# EAGLE library part CY7C68013*-56 (library hs-ul)
Zuordnungstabelle Vorn SSOP56 LF56 Pb Pb-frei Pb Pb-frei FX2 CY7C68013 -56PVC -56PVXC -56LFC -56LFXC FX2LP CY7C68013 A-56PVC A-56PVXC A-56LFC A-56LFXC
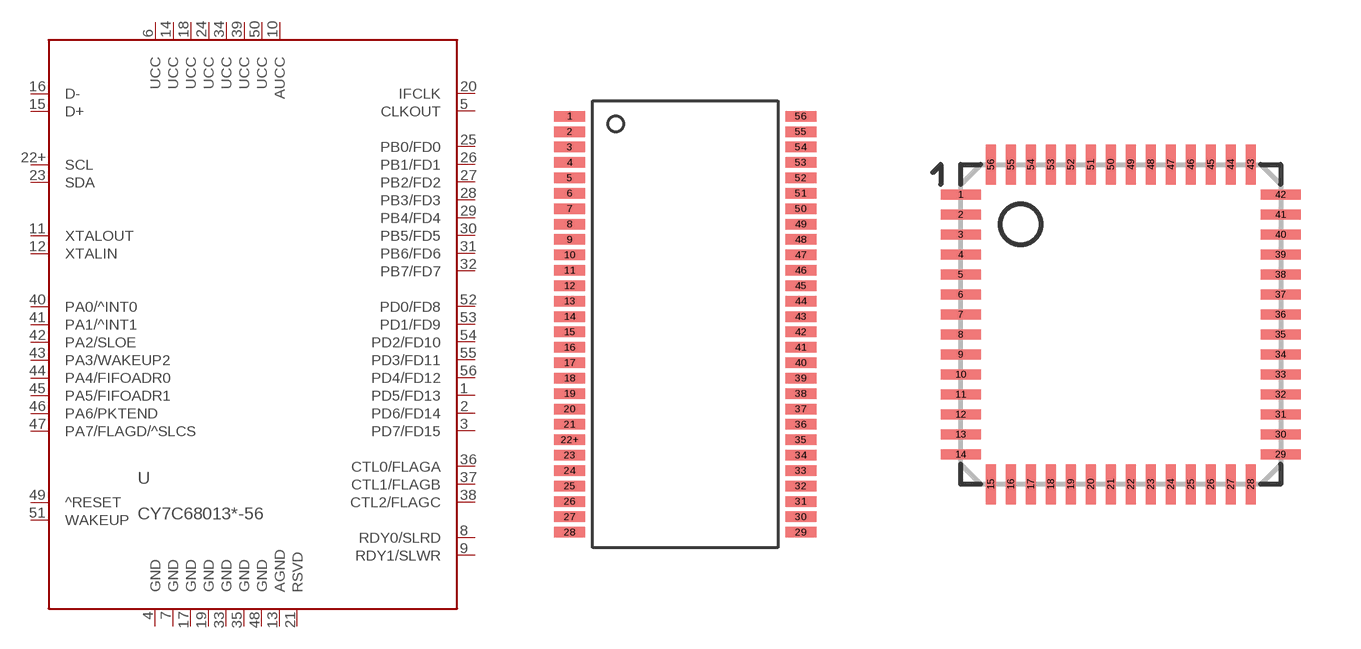
[diagram p5: symbol with the pads of SSOP56; footprints SSOP56, MLF56]

Designator prefix U

## CY7C68013-56PVC, CY7C68013A-56PVC  [SSOP56]
1  PD5/FD13
2  PD6/FD14
3  PD7/FD15
4  GND  pwr
5  CLKOUT  hiz
6  UCC  pwr
7  GND  pwr
8  RDY0/SLRD  in
9  RDY1/SLWR  in
10  AUCC  pwr
11  XTALOUT  out
12  XTALIN  in
13  AGND  pwr
14  UCC  pwr
15  D+
16  D-
17  GND  pwr
18  UCC  pwr
19  GND  pwr
20  IFCLK
21  RSVD  in
22+  SCL  oc
23  SDA  oc
24  UCC  pwr
25  PB0/FD0
26  PB1/FD1
27  PB2/FD2
28  PB3/FD3
29  PB4/FD4
30  PB5/FD5
31  PB6/FD6
32  PB7/FD7
33  GND  pwr
34  UCC  pwr
35  GND  pwr
36  CTL0/FLAGA  hiz
37  CTL1/FLAGB  hiz
38  CTL2/FLAGC  hiz
39  UCC  pwr
40  PA0/^INT0
41  PA1/^INT1
42  PA2/SLOE
43  PA3/WAKEUP2
44  PA4/FIFOADR0
45  PA5/FIFOADR1
46  PA6/PKTEND
47  PA7/FLAGD/^SLCS
48  GND  pwr
49  ^RESET  in
50  UCC  pwr
51  WAKEUP  in
52  PD0/FD8
53  PD1/FD9
54  PD2/FD10
55  PD3/FD11
56  PD4/FD12

## CY7C68013-56LFC, CY7C68013A-56LFC  [MLF56]
1  RDY0/SLRD  in
2  RDY1/SLWR  in
3  AUCC  pwr
4  XTALOUT  out
5  XTALIN  in
6  AGND  pwr
7  UCC  pwr
8  D+
9  D-
10  GND  pwr
11  UCC  pwr
12  GND  pwr
13  IFCLK
14  RSVD  in
15  SCL  oc
16  SDA  oc
17  UCC  pwr
18  PB0/FD0
19  PB1/FD1
20  PB2/FD2
21  PB3/FD3
22  PB4/FD4
23  PB5/FD5
24  PB6/FD6
25  PB7/FD7
26  GND  pwr
27  UCC  pwr
28  GND  pwr
29  CTL0/FLAGA  hiz
30  CTL1/FLAGB  hiz
31  CTL2/FLAGC  hiz
32  UCC  pwr
33  PA0/^INT0
34  PA1/^INT1
35  PA2/SLOE
36  PA3/WAKEUP2
37  PA4/FIFOADR0
38  PA5/FIFOADR1
39  PA6/PKTEND
40  PA7/FLAGD/^SLCS
41  GND  pwr
42  ^RESET  in
43  UCC  pwr
44  WAKEUP  in
45  PD0/FD8
46  PD1/FD9
47  PD2/FD10
48  PD3/FD11
49  PD4/FD12
50  PD5/FD13
51  PD6/FD14
52  PD7/FD15
53  GND  pwr
54  CLKOUT  hiz
55  UCC  pwr
56  GND  pwr

## CY7C68013-56LFXC, CY7C68013A-56LFXC  [MLF56]
Pads as for MLF56

## CY7C68013-56PVXC, CY7C68013A-56PVXC  [SSOP56]
Pads as for SSOP56

## Footprint SSOP56 (pad centres in mm)
56-lead Shrunk Small Outline Package O56 Raster: 25 mil (0,65 mm)
smd 1.27 x 0.432: 1 -4.763,8.572; 2 -4.763,7.938; 3 -4.763,7.303; 4 -4.763,6.668; 5 -4.763,6.032; 6 -4.763,5.397; 7 -4.763,4.763; 8 -4.763,4.128; 9 -4.763,3.493; 10 -4.763,2.857; 11 -4.763,2.223; 12 -4.763,1.587; 13 -4.763,0.953; 14 -4.763,0.318; 15 -4.763,-0.318; 16 -4.763,-0.953; 17 -4.763,-1.587; 18 -4.763,-2.223; 19 -4.763,-2.857; 20 -4.763,-3.493; 21 -4.763,-4.128; 22+ -4.763,-4.763; 23 -4.763,-5.397; 24 -4.763,-6.032; 25 -4.763,-6.668; 26 -4.763,-7.303; 27 -4.763,-7.938; 28 -4.763,-8.572; 29 4.763,-8.572; 30 4.763,-7.938; 31 4.763,-7.303; 32 4.763,-6.668; 33 4.763,-6.032; 34 4.763,-5.397; 35 4.763,-4.763; 36 4.763,-4.128; 37 4.763,-3.493; 38 4.763,-2.857; 39 4.763,-2.223; 40 4.763,-1.587; 41 4.763,-0.953; 42 4.763,-0.318; 43 4.763,0.318; 44 4.763,0.953; 45 4.763,1.587; 46 4.763,2.223; 47 4.763,2.857; 48 4.763,3.493; 49 4.763,4.128; 50 4.763,4.763; 51 4.763,5.397; 52 4.763,6.032; 53 4.763,6.668; 54 4.763,7.303; 55 4.763,7.938; 56 4.763,8.572

## Footprint MLF56 (pad centres in mm)
56-lead Quad Flatpack No Lead Package L56 Raster: 0,5 mm
smd 1 x 0.25: 1 -4,3.25; 2 -4,2.75; 3 -4,2.25; 4 -4,1.75; 5 -4,1.25; 6 -4,0.75; 7 -4,0.25; 8 -4,-0.25; 9 -4,-0.75; 10 -4,-1.25; 11 -4,-1.75; 12 -4,-2.25; 13 -4,-2.75; 14 -4,-3.25; 29 4,-3.25; 30 4,-2.75; 31 4,-2.25; 32 4,-1.75; 33 4,-1.25; 34 4,-0.75; 35 4,-0.25; 36 4,0.25; 37 4,0.75; 38 4,1.25; 39 4,1.75; 40 4,2.25; 41 4,2.75; 42 4,3.25
smd 0.25 x 1: 15 -3.25,-4; 16 -2.75,-4; 17 -2.25,-4; 18 -1.75,-4; 19 -1.25,-4; 20 -0.75,-4; 21 -0.25,-4; 22 0.25,-4; 23 0.75,-4; 24 1.25,-4; 25 1.75,-4; 26 2.25,-4; 27 2.75,-4; 28 3.25,-4; 43 3.25,4; 44 2.75,4; 45 2.25,4; 46 1.75,4; 47 1.25,4; 48 0.75,4; 49 0.25,4; 50 -0.25,4; 51 -0.75,4; 52 -1.25,4; 53 -1.75,4; 54 -2.25,4; 55 -2.75,4; 56 -3.25,4